# EAGLE library part ESQ-126-37-G-D (library ESQ-126-37-G-D)
52 Position, Elevated Socket Strip, 0.100" Pitch Source: Datasheet <https://componentsearchengine.com/Datasheets/1/ESQ-126-37-G-D.pdf>
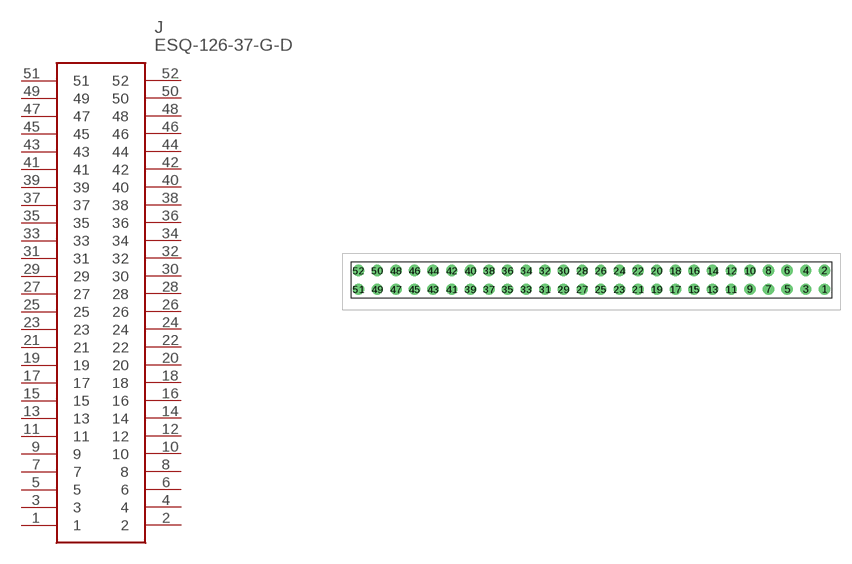
[diagram p0: symbol with the pads of ESQ-126-Y-X; footprint ESQ-126-Y-X]

Designator prefix J

## ESQ-126-37-G-D (Description: 52 Position, Elevated Socket Strip, 0.100&quot; Pitch; Height: mm; Manufacturer_Name: SAMTEC; Manufacturer_Part_Number: ESQ-126-37-G-D; Mouser_Part_Number: 200-ESQ12637GD; Mouser_Price-Stock: https://www.mouser.com/Search/Refine.aspx?Keyword=200-ESQ12637GD)  [ESQ-126-Y-X]
1  1
2  2
3  3
4  4
5  5
6  6
7  7
8  8
9  9
10  10
11  11
12  12
13  13
14  14
15  15
16  16
17  17
18  18
19  19
20  20
21  21
22  22
23  23
24  24
25  25
26  26
27  27
28  28
29  29
30  30
31  31
32  32
33  33
34  34
35  35
36  36
37  37
38  38
39  39
40  40
41  41
42  42
43  43
44  44
45  45
46  46
47  47
48  48
49  49
50  50
51  51
52  52

## Footprint ESQ-126-Y-X (pad centres in mm)
ESQ-126-Y-X-D
drill 1.02 pad 1.55: 1 0,0; 2 0,2.54; 3 -2.54,0; 4 -2.54,2.54; 5 -5.08,0; 6 -5.08,2.54; 7 -7.62,0; 8 -7.62,2.54; 9 -10.16,0; 10 -10.16,2.54; 11 -12.7,0; 12 -12.7,2.54; 13 -15.24,0; 14 -15.24,2.54; 15 -17.78,0; 16 -17.78,2.54; 17 -20.32,0; 18 -20.32,2.54; 19 -22.86,0; 20 -22.86,2.54; 21 -25.4,0; 22 -25.4,2.54; 23 -27.94,0; 24 -27.94,2.54; 25 -30.48,0; 26 -30.48,2.54; 27 -33.02,0; 28 -33.02,2.54; 29 -35.56,0; 30 -35.56,2.54; 31 -38.1,0; 32 -38.1,2.54; 33 -40.64,0; 34 -40.64,2.54; 35 -43.18,0; 36 -43.18,2.54; 37 -45.72,0; 38 -45.72,2.54; 39 -48.26,0; 40 -48.26,2.54; 41 -50.8,0; 42 -50.8,2.54; 43 -53.34,0; 44 -53.34,2.54; 45 -55.88,0; 46 -55.88,2.54; 47 -58.42,0; 48 -58.42,2.54; 49 -60.96,0; 50 -60.96,2.54; 51 -63.5,0; 52 -63.5,2.54